# Altium schematic symbol library F1_MODULE.SchLib: 19 symbols (part 2 of 2)
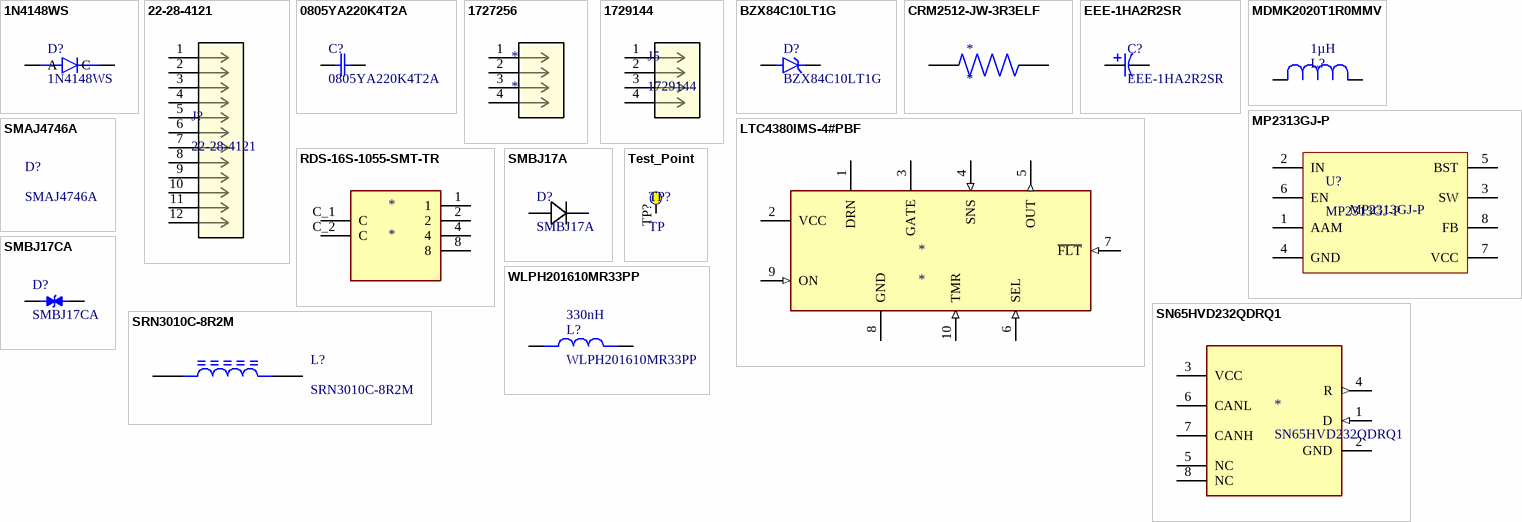
[diagram p1: symbols 1N4148WS to WLPH201610MR33PP]

## RDS-16S-1055-SMT-TR
designator *
Switch DIP N.O./N.C. SP16T 16 Flush Screwdriver 0.025A 24VDC Gull Wing 2.54mm SMD T/R; Manufacturer: Same Sky; Manufacturer Part Number: RDS-16S-1055-SMT-TR; Contact Resistance: 100mΩ; Electrical Life: 10kcycles; Max Current Rating: 25mA; Max Voltage Rating (DC): 24V; Number of Circuits: 1; Number of Positions: 16; Supplier: DigiKey; Supplier Part Number: 2223-RDS-16S-1055-SMT-CT-ND; RoHS: Compliant; Category: DIP Switches; Stock: 5142; Pricing: 1=2.82, 10=2.37, 25=2.1972, 100=1.9572 (USD); Color: Black; Height: 5.6mm; Insulation Resistance: 100MΩ; Length: 10mm; Lifecycle Status: Production; Max Operating Temperature: 85°C; Min Operating Temperature: -40°C; REACH SVHC: Yes; Schedule B: 8536509065, 8536509065|8536509065, 8536509065|8536509065|8536509065, 8536509065|8536509065|8536509065|8536509065; ComponentLink1URL: https://datasheet.octopart.com:443/RDS-16S-1055-SMT-TR-Same-Sky-datasheet-188842328.pdf?src-supplier=Same+Sky; ComponentLink1Description: https://datasheet.octopart.com:443/RDS-16S-1055-SMT-TR-Same-Sky-datasheet-188842328.pdf?src-supplier=Same+Sky; ComponentLink2URL: https://datasheet.octopart.com:443/RDS-16S-1055-SMT-TR-Same-Sky-datasheet-181918628.pdf?src-supplier=Same+Sky; ComponentLink2Description: https://datasheet.octopart.com:443/RDS-16S-1055-SMT-TR-Same-Sky-datasheet-181918628.pdf?src-supplier=Same+Sky; ComponentLink3URL: https://datasheet.octopart.com:443/RDS-16S-1055-SMT-TR-CUI-Devices-datasheet-175928118.pdf?src-supplier=Same+Sky; ComponentLink3Description: https://datasheet.octopart.com:443/RDS-16S-1055-SMT-TR-CUI-Devices-datasheet-175928118.pdf?src-supplier=Same+Sky; ComponentLink4URL: https://datasheet.octopart.com:443/RDS-16S-1055-SMT-TR-CUI-Devices-datasheet-144794870.pdf?src-supplier=Same+Sky; ComponentLink4Description: https://datasheet.octopart.com:443/RDS-16S-1055-SMT-TR-CUI-Devices-datasheet-144794870.pdf?src-supplier=Same+Sky; ComponentLink5URL: https://datasheet.octopart.com:443/RDS-16S-1055-SMT-TR-CUI-Devices-datasheet-180437904.pdf?src-supplier=IHS; ComponentLink5Description: https://datasheet.octopart.com:443/RDS-16S-1055-SMT-TR-CUI-Devices-datasheet-180437904.pdf?src-supplier=IHS; ComponentLink6URL: https://datasheet.octopart.com:443/RDS-16S-1055-SMT-TR-Same-Sky-datasheet-182881204.pdf?src-supplier=Electro+Sonic; ComponentLink6Description: https://datasheet.octopart.com:443/RDS-16S-1055-SMT-TR-Same-Sky-datasheet-182881204.pdf?src-supplier=Electro+Sonic; ComponentLink7URL: https://datasheet.octopart.com:443/RDS-16S-1055-SMT-TR-Same-Sky-datasheet-188930843.pdf?src-supplier=TME; ComponentLink7Description: https://datasheet.octopart.com:443/RDS-16S-1055-SMT-TR-Same-Sky-datasheet-188930843.pdf?src-supplier=TME; ComponentLink8URL: https://octopart.com:443/opatz8j6/c1?t=_S1XDk3G9b3nBWIqEVZHI1EraEkVL7p7Heb939L3wnZ9DV9oZzBat9jF5TUKmsQPFPswFGjm08oSHWgt3jIvZcreht7dXY8daMTDSCiV_xj2_1PLFk0-lz9TM6Y7r0fNgGwxxdSkMO1a2qh662FSY7f1YEICy7KBM9zZuplNSdDRuYvbCxZK2KU3RMUz__sLk1iFJHWIUZd17BlB_NVjl-uKDdwEs4d5ySw-iAHAF8e2UKEDWdecOr6CdlMuv3i-gD-LwaTN98BHJv5P7mmbkhlEk6etLcAlE_55m19djFkDizjzUjbm6XBh1vAY6B7V75G-CKM6kHJhCpUSHTpaC-CxlrLZPnu85Hm7XV74wE4&src-supplier=Compliance+Statements; ComponentLink8Description: https://octopart.com:443/opatz8j6/c1?t=_S1XDk3G9b3nBWIqEVZHI1EraEkVL7p7Heb939L3wnZ9DV9oZzBat9jF5TUKmsQPFPswFGjm08oSHWgt3jIvZcreht7dXY8daMTDSCiV_xj2_1PLFk0-lz9TM6Y7r0fNgGwxxdSkMO1a2qh662FSY7f1YEICy7KBM9zZuplNSdDRuYvbCxZK2KU3RMUz__sLk1iFJHWIUZd17BlB_NVjl-uKDdwEs4d5ySw-iAHAF8e2UKEDWdecOr6CdlMuv3i-gD-LwaTN98BHJv5P7mmbkhlEk6etLcAlE_55m19djFkDizjzUjbm6XBh1vAY6B7V75G-CKM6kHJhCpUSHTpaC-CxlrLZPnu85Hm7XV74wE4&src-supplier=Compliance+Statements; ComponentLink9URL: https://octopart.com:443/opatz8j6/c1?t=pBMn605KJwbyaiuYgBBWZQSRK8d6dqOwxIH_ygOUd1T616pUPn0YdFmPxmGa5QU_-vizhkGfwgt7t_2L4tcsKWqIk9y3SRxf2PnqRphcuJgDXtmx7u1QTfYOB-p4LJb3I4CL7XV8sVoi1PJJfC4hchyU7N3ePiVSCADPmsu5-5fwEHBOwn-z6uvapISW8fUea96iYDBC76UQ-EaxJovXgG2P1hes3rFKZ-dnuXFHtuoOQ2eL5NJgFdEOSW668PMcPqOLBuKLMVBnCvornv4snHUf7o0MQHZzGE2BHGwiC1zMBOuetF8_uOxQxsRySsODlphW6SH8JOts4ua06de6JoHX081EltQRHP6jK8W8r8c&src-supplier=Compliance+Statements; ComponentLink9Description: https://octopart.com:443/opatz8j6/c1?t=pBMn605KJwbyaiuYgBBWZQSRK8d6dqOwxIH_ygOUd1T616pUPn0YdFmPxmGa5QU_-vizhkGfwgt7t_2L4tcsKWqIk9y3SRxf2PnqRphcuJgDXtmx7u1QTfYOB-p4LJb3I4CL7XV8sVoi1PJJfC4hchyU7N3ePiVSCADPmsu5-5fwEHBOwn-z6uvapISW8fUea96iYDBC76UQ-EaxJovXgG2P1hes3rFKZ-dnuXFHtuoOQ2eL5NJgFdEOSW668PMcPqOLBuKLMVBnCvornv4snHUf7o0MQHZzGE2BHGwiC1zMBOuetF8_uOxQxsRySsODlphW6SH8JOts4ua06de6JoHX081EltQRHP6jK8W8r8c&src-supplier=Compliance+Statements; ComponentLink10URL: https://octopart.com:443/opatz8j6/c1?t=6K169W1h1JFuLpVrExhds8aA0MvU8XMb7l9HMdO5POypJLwzTxhQAbKMT-DgvLQUX9hILsc9f4UyvifXECUrQ9xMbEaO1dy2ZgJuF6GVBLUiL8g276mJyHG0DA3zYrN7wRH4xNkrRO6-YzoW579ONSkHf2aW_bmYrB7v178UhWVRjKWytY4ICcg4K1Y6KPHEVAnze1SYe4a7LrChmSuXFqNuzeCU7CStp_3G8i8MZBApe-0ZlIZb-2cyGbEBzwgJ3bHM5R0PGraOjQCdHvQQ5iHlXcxCqIwBcpO7h1AsRHr8UHf6bbLfscLcMUBPDVkx0-BUVYE8AbU32XSVc9McKF5zfWxL-AjBCroDywxcZSbfSqvK&src-supplier=Compliance+Statements; ComponentLink10Description: https://octopart.com:443/opatz8j6/c1?t=6K169W1h1JFuLpVrExhds8aA0MvU8XMb7l9HMdO5POypJLwzTxhQAbKMT-DgvLQUX9hILsc9f4UyvifXECUrQ9xMbEaO1dy2ZgJuF6GVBLUiL8g276mJyHG0DA3zYrN7wRH4xNkrRO6-YzoW579ONSkHf2aW_bmYrB7v178UhWVRjKWytY4ICcg4K1Y6KPHEVAnze1SYe4a7LrChmSuXFqNuzeCU7CStp_3G8i8MZBApe-0ZlIZb-2cyGbEBzwgJ3bHM5R0PGraOjQCdHvQQ5iHlXcxCqIwBcpO7h1AsRHr8UHf6bbLfscLcMUBPDVkx0-BUVYE8AbU32XSVc9McKF5zfWxL-AjBCroDywxcZSbfSqvK&src-supplier=Compliance+Statements; ComponentLink11URL: https://octopart.com:443/opatz8j6/c1?t=t0riTWjCNsnC1LUB7PTK6QCU5mFa7f4Pa5edh-wggO-qLfSw7MySbU_nxyLYi2xlgXsCg7FGGlIvozZukdnoQWkecPu-AG6X-Mtr8EI4gvbRH6_16uGmqkAyO9EXl8dcIoCfxxShGindmaUaq-ju5wDg7YxlfOyFQt_mOWFnzbzRxotfCjx8tROCtau5jTEzNErC7PwlxUmMnnyyk2iFRqNzBZmOrcA8Aw8sQsi5U1IPBIbF_21UzlNFuh3AprKn76yTa5GEehzp56YvNn2wEUg7xKx1Fmaf0qx6Ykk2DBkSCkl3AV3VHlYvCRGR-jHFVkibsrCWDICnw1SI9ofjJy33sP1ZqCIH77Ulxr3ij08&src-supplier=Compliance+Statements; ComponentLink11Description: https://octopart.com:443/opatz8j6/c1?t=t0riTWjCNsnC1LUB7PTK6QCU5mFa7f4Pa5edh-wggO-qLfSw7MySbU_nxyLYi2xlgXsCg7FGGlIvozZukdnoQWkecPu-AG6X-Mtr8EI4gvbRH6_16uGmqkAyO9EXl8dcIoCfxxShGindmaUaq-ju5wDg7YxlfOyFQt_mOWFnzbzRxotfCjx8tROCtau5jTEzNErC7PwlxUmMnnyyk2iFRqNzBZmOrcA8Aw8sQsi5U1IPBIbF_21UzlNFuh3AprKn76yTa5GEehzp56YvNn2wEUg7xKx1Fmaf0qx6Ykk2DBkSCkl3AV3VHlYvCRGR-jHFVkibsrCWDICnw1SI9ofjJy33sP1ZqCIH77Ulxr3ij08&src-supplier=Compliance+Statements; ComponentLink12URL: https://octopart.com:443/opatz8j6/c1?t=T4zBbLjbde79Y69W75SBXl1x58fD1Jjsv27lT550JoD4jNNnxGWJsu6m_LRt15OnWUI9PBP9yDqbt7Z_hirusoAM-vzIPyWBsY4vCehbolc_iTQAVx_hRSPUL33oujyWP9YI9knBt4PNjesga5Klgylx6mQlJ9fhysAViX2KxGLuNDaqjRWmXv_8qL9GciZJUI1ntv11mfODmdRp830CEAd39UocRIt5QXVKO7VeQG7G6wJgl8gzZeuicBUgYC4PTQOy6JrgEkRah6d0Byf4LhgsZCddeFGvlBKwDP74wGnGwgsFOmeLamwvpbRMd3BwSV8ctJE8McpyuW37-C3E02I8ScDdn5OU5BOadzRIK6I&src-supplier=Compliance+Statements; ComponentLink12Description: https://octopart.com:443/opatz8j6/c1?t=T4zBbLjbde79Y69W75SBXl1x58fD1Jjsv27lT550JoD4jNNnxGWJsu6m_LRt15OnWUI9PBP9yDqbt7Z_hirusoAM-vzIPyWBsY4vCehbolc_iTQAVx_hRSPUL33oujyWP9YI9knBt4PNjesga5Klgylx6mQlJ9fhysAViX2KxGLuNDaqjRWmXv_8qL9GciZJUI1ntv11mfODmdRp830CEAd39UocRIt5QXVKO7VeQG7G6wJgl8gzZeuicBUgYC4PTQOy6JrgEkRah6d0Byf4LhgsZCddeFGvlBKwDP74wGnGwgsFOmeLamwvpbRMd3BwSV8ctJE8McpyuW37-C3E02I8ScDdn5OU5BOadzRIK6I&src-supplier=Compliance+Statements; ComponentLink13URL: https://octopart.com:443/opatz8j6/c1?t=d64JeCYHwyDSf9wK9zwCARV_S-EguQ_wHk8emvD3YyPFFJCR8riSXx9K6BJ18wcOXwDQQ0iRbKnAh-kvmvdBPzVt2aTGedeoNDIQjLhXt8ghc3AEiMiwaIm3JmlcL5jW-wJzEnH9VD4q-noO0kk7pTp_yy3CjYbuS_WirZv4n5RqVZ7eNmQsqJo_v53UOmrndkTodISTG914TAsL70Nza-D1cf6jYDsm0vxoVIAgy9izJXjjFQ7fLIHXznD8WW_PEzFozminVy1BtMdU-yNXcgj7pcZ4DeuBfHyBBQES5IawiwiubWMYV-VhkuHrpgLZ2BPIHsVStO-tS2-vuT8fT2QunUJ4bLpqDwbpEEwfn8_wTSzE&src-supplier=Compliance+Statements; ComponentLink13Description: https://octopart.com:443/opatz8j6/c1?t=d64JeCYHwyDSf9wK9zwCARV_S-EguQ_wHk8emvD3YyPFFJCR8riSXx9K6BJ18wcOXwDQQ0iRbKnAh-kvmvdBPzVt2aTGedeoNDIQjLhXt8ghc3AEiMiwaIm3JmlcL5jW-wJzEnH9VD4q-noO0kk7pTp_yy3CjYbuS_WirZv4n5RqVZ7eNmQsqJo_v53UOmrndkTodISTG914TAsL70Nza-D1cf6jYDsm0vxoVIAgy9izJXjjFQ7fLIHXznD8WW_PEzFozminVy1BtMdU-yNXcgj7pcZ4DeuBfHyBBQES5IawiwiubWMYV-VhkuHrpgLZ2BPIHsVStO-tS2-vuT8fT2QunUJ4bLpqDwbpEEwfn8_wTSzE&src-supplier=Compliance+Statements
footprint SW_RDS-16S-1055-SMT-TR
pins: 1, 2, 4, 8, C_1 C, C_2 C

## SMAJ4746A
designator D?
Zener Diode, 18V V(Z), 1W, Silicon, Unidirectional, DO-214AC; Manufacturer: Multicomp; Number of Elements: 1; Zener Current: 14mA; Supplier: Farnell; Supplier Part Number: 2675209; Manufacturer Part Number: SMAJ4746A; RoHS: Compliant; Category: Zener Diodes; Stock: 4206; Pricing: 5=0.367, 10=0.293, 100=0.21, 500=0.147, 1000=0.105, 5000=0.0917 (EUR); Lifecycle Status: Production; Max Operating Temperature: 150°C; Max Power Dissipation: 1W; Min Operating Temperature: -55°C; Number of Terminals: 2; Packaging: Cut Tape; Polarity: Unidirectional; Reference Voltage: 18V; ComponentLink1URL: https://datasheet.octopart.com:443/SMAJ4746A-Multicomp-datasheet-68536675.pdf?src-supplier=IHS; ComponentLink1Description: https://datasheet.octopart.com:443/SMAJ4746A-Multicomp-datasheet-68536675.pdf?src-supplier=IHS

## SMBJ17A
designator D?
Trans Voltage Suppressor Diode, 600W, 17V V(RWM), Unidirectional, 1 Element, Silicon, DO-214AA; Manufacturer: Bourns; Breakdown Voltage: 19.9V; Clamping Voltage: 27.6V; Leakage Current: 5µA; Max Breakdown Voltage: 20.9V; Max Power Dissipation: 5W; Max Surge Current: 100A; Min Breakdown Voltage: 18.9V; Number of Channels: 1; Peak Pulse Current: 21.7A; Power Line Protection: No; Test Current: 1mA; Supplier: Arrow Electronics; Supplier Part Number: SMBJ17A; Manufacturer Part Number: SMBJ17A; RoHS: Compliant; Category: TVS Diodes; Stock: 1016; Pricing: 814=0.0788 (USD); Case/Package: SMB; China RoHS: Non-Compliant; Composition: Zener; Direction: Unidirectional; Lifecycle Status: Production; Max Operating Temperature: 150°C; Max Reverse Leakage Current: 5µA; Min Operating Temperature: -55°C; Mounting Technology: Surface Mount; Number of Elements: 1; Pins: 2; Number of Terminals: 2; Number of Unidirectional Channels: 1; Peak Pulse Power: 600W; Polarity: Unidirectional; REACH SVHC: No; Reverse Breakdown Voltage: 18.9V; Reverse Standoff Voltage: 17V; Schedule B: 8541100080, 8541100080|8541100080, 8541100080|8541100080|8541100080, 8541100080|8541100080|8541100080|8541100080; Termination: SMD/SMT; ComponentLink1URL: https://datasheet.octopart.com:443/SMBJ17A-Bourns-datasheet-179980059.pdf?src-supplier=TME; ComponentLink1Description: https://datasheet.octopart.com:443/SMBJ17A-Bourns-datasheet-179980059.pdf?src-supplier=TME; ComponentLink2URL: https://datasheet.octopart.com/SMBJ17A-Bourns-datasheet-12567566.pdf; ComponentLink2Description: https://datasheet.octopart.com/SMBJ17A-Bourns-datasheet-12567566.pdf; ComponentLink3URL: https://datasheet.octopart.com:443/SMBJ17A-Bourns-datasheet-154729896.pdf?src-supplier=JRH+Electronics; ComponentLink3Description: https://datasheet.octopart.com:443/SMBJ17A-Bourns-datasheet-154729896.pdf?src-supplier=JRH+Electronics; ComponentLink4URL: https://datasheet.octopart.com:443/SMBJ17A-Bourns-datasheet-94099898.pdf?src-supplier=Newark; ComponentLink4Description: https://datasheet.octopart.com:443/SMBJ17A-Bourns-datasheet-94099898.pdf?src-supplier=Newark; ComponentLink5URL: https://datasheet.octopart.com:443/SMBJ17A-Bourns-datasheet-42429174.pdf?src-supplier=Newark; ComponentLink5Description: https://datasheet.octopart.com:443/SMBJ17A-Bourns-datasheet-42429174.pdf?src-supplier=Newark; ComponentLink6URL: https://datasheet.octopart.com:443/SMBJ17A-Bourns-datasheet-34433208.pdf?src-supplier=Newark; ComponentLink6Description: https://datasheet.octopart.com:443/SMBJ17A-Bourns-datasheet-34433208.pdf?src-supplier=Newark; ComponentLink7URL: https://datasheet.octopart.com:443/SMBJ17A-Bourns-datasheet-154729571.pdf?src-supplier=RS+(Formerly+Allied+Electronics); ComponentLink7Description: https://datasheet.octopart.com:443/SMBJ17A-Bourns-datasheet-154729571.pdf?src-supplier=RS+(Formerly+Allied+Electronics); ComponentLink8URL: https://datasheet.octopart.com:443/SMBJ17A-Bourns-datasheet-14047909.pdf?src-supplier=iiiC; ComponentLink8Description: https://datasheet.octopart.com:443/SMBJ17A-Bourns-datasheet-14047909.pdf?src-supplier=iiiC; ComponentLink9URL: https://datasheet.octopart.com:443/SMBJ17A-Bourns-datasheet-10292148.pdf?src-supplier=element14; ComponentLink9Description: https://datasheet.octopart.com:443/SMBJ17A-Bourns-datasheet-10292148.pdf?src-supplier=element14; ComponentLink10URL: http://sigma.octopart.com:80/conflict_mineral_statement/Bourns-company-36.pdf?src-supplier=Compliance+Statements; ComponentLink10Description: http://sigma.octopart.com:80/conflict_mineral_statement/Bourns-company-36.pdf?src-supplier=Compliance+Statements
footprint SMBJSeries_LTF
pins: 1, 2

## SMBJ17CA
designator D?
DO-214AA SMB SMBJ Surface Mount 1 Zener Tvs Diode 18.9V 21.7A 600W -55C~150C TJ; Manufacturer: Taiwan Semiconductor; Manufacturer Lifecycle Status: ACTIVE; Breakdown Voltage: 19.9V; Clamping Voltage: 27.6V; Forward Voltage: 1V; Max Breakdown Voltage: 20.9V; Max Forward Surge Current (Ifsm): 2.5A; Max Junction Temperature (Tj): 150°C; Max Power Dissipation: 3W; Max Repetitive Reverse Voltage (Vrrm): 250V; Max Reverse Leakage Current: 1µA; Max Surge Current: 100A; Number of Channels: 1; Operating Supply Voltage: 17V; Peak Pulse Current: 22.8A; Polarity: Bidirectional; Power Dissipation: 200mW; Reverse Recovery Time: 50ns; Supplier: Arrow Electronics; Supplier Part Number: SMBJ17CA; Manufacturer Part Number: SMBJ17CA; RoHS: Compliant; Category: TVS Diodes; Stock: 5190; Pricing: 741=0.476, 1000=0.476, 3000=0.475 (USD); China RoHS: Non-Compliant; Height: 2.44mm; Lead Free: Lead Free; Length: 5.59mm; Lifecycle Status: Production; Max Operating Temperature: 150°C; Min Breakdown Voltage: 18.9V; Min Operating Temperature: -55°C; Number of Elements: 1; Pins: 2; Number of Terminals: 2; Peak Pulse Power: 600W; Peak Reverse Current: 1µA; Power Rating: 600W; REACH SVHC: No; Reverse Standoff Voltage: 17V; Schedule B: 8541100080; Voltage Rating (DC): 17V; Width: 3.94mm; ComponentLink1URL: https://datasheet.octopart.com:443/SMBJ17CA-Taiwan-Semiconductor-datasheet-151942224.pdf?src-supplier=Newark; ComponentLink1Description: https://datasheet.octopart.com:443/SMBJ17CA-Taiwan-Semiconductor-datasheet-151942224.pdf?src-supplier=Newark; ComponentLink2URL: https://datasheet.octopart.com:443/SMBJ17CA-Taiwan-Semiconductor-datasheet-94061883.pdf?src-supplier=Newark; ComponentLink2Description: https://datasheet.octopart.com:443/SMBJ17CA-Taiwan-Semiconductor-datasheet-94061883.pdf?src-supplier=Newark; ComponentLink3URL: https://datasheet.octopart.com:443/SMBJ17CA-Taiwan-Semiconductor-datasheet-181551140.pdf?src-supplier=IHS; ComponentLink3Description: https://datasheet.octopart.com:443/SMBJ17CA-Taiwan-Semiconductor-datasheet-181551140.pdf?src-supplier=IHS; ComponentLink4URL: https://datasheet.octopart.com:443/SMBJ17CA-Taiwan-Semiconductor-datasheet-182396145.pdf?src-supplier=IHS; ComponentLink4Description: https://datasheet.octopart.com:443/SMBJ17CA-Taiwan-Semiconductor-datasheet-182396145.pdf?src-supplier=IHS; ComponentLink5URL: https://datasheet.octopart.com:443/SMBJ17CA-Taiwan-Semiconductor-datasheet-180789127.pdf?src-supplier=IHS; ComponentLink5Description: https://datasheet.octopart.com:443/SMBJ17CA-Taiwan-Semiconductor-datasheet-180789127.pdf?src-supplier=IHS; ComponentLink6URL: https://datasheet.octopart.com:443/SMBJ17CA-Taiwan-Semiconductor-datasheet-137249696.pdf?src-supplier=Taiwan+Semiconductor; ComponentLink6Description: https://datasheet.octopart.com:443/SMBJ17CA-Taiwan-Semiconductor-datasheet-137249696.pdf?src-supplier=Taiwan+Semiconductor; ComponentLink7URL: https://datasheet.octopart.com:443/SMBJ17CA-Taiwan-Semiconductor-datasheet-34355353.pdf?src-supplier=Taiwan+Semiconductor; ComponentLink7Description: https://datasheet.octopart.com:443/SMBJ17CA-Taiwan-Semiconductor-datasheet-34355353.pdf?src-supplier=Taiwan+Semiconductor
footprint SMBJSeries_LTF
pins: 1, 2

## SN65HVD232QDRQ1
designator *
Texas Instruments - SN65HVD232QDRQ1 - Can Bus, Transceiver, Can, 1, 1, 3 V, 3.6 V, SOIC; Manufacturer Lifecycle Status: ACTIVE; Data Rate: 1Mbps; Max Supply Current: 17mA; Max Supply Voltage: 3.6V; Min Supply Voltage: 3V; Nominal Supply Current: 10mA; Number of Drivers: 1; Operating Supply Voltage: 3.3V; Supplier: DigiKey; Supplier Part Number: 296-15381-1-ND; Manufacturer: Texas Instruments; Manufacturer Part Number: SN65HVD232QDRQ1; RoHS: Compliant; Category: CAN Transceivers; Stock: 5233; Pricing: 1=2.53, 10=1.882, 25=1.7204, 100=1.542, 250=1.45696, 500=1.40572, 1000=1.36355 (USD); Ambient Temperature Range High: 125°C; Case/Package: SOIC; Contact Plating: Gold; Height: 1.75mm; Interface: CAN; Lead Free: Lead Free; Length: 4.9mm; Lifecycle Status: Production; Max Operating Temperature: 125°C; Min Operating Temperature: -40°C; Mounting Technology: Surface Mount; Pins: 8; Number of Receive Buffers: 1; Number of Transceivers: 1; Number of Transmit Buffers: 1; Radiation Hardening: No; REACH SVHC: No; Schedule B: 8542390000, 8542390000|8542390000|8542390000|8542390000|8542390000; Thickness: 1.58mm; Weight: 80.002354mg; Width: 3.91mm; ComponentLink1URL: https://octopart.com:443/opatz8j6/c1?t=LITAgAgz7B7QdaI9Qt2HgjoOmCu10XyqoYNHrwpusWZQVAPjgkmSFEF_risBrFxYo7pRufx3DEyy-N2gHphhBbY-O2brPGwBF0qWRDZBJwKpc8vz7NpKSZYmgFurZzREfPeTPNY--uS1FGiQhAQrSt4zcAPh1I7_MFqUNujoR0GcOpyZmo-pl9rdjnllxDCclFCKWB0voRrbvMpqWNAUQ8_CUMXod7jJBc2QYEMrdlZ29hcqAraiQu_d7e2TY7iSXt3xUmcpQy3q8KC-DM-dgBTcyvd1Ne-Gppd1cBkfaDw_Hz75aMDp-mAqQ1vF_U4SwwQFJ6tBaMhfxI2bAF_CCtHKrOx3ejVdVy91kaUfrzlkSVnoyQmpLArEwGXVjVjJpcLj4gC98fsP&src-supplier=Texas+Instruments; ComponentLink1Description: https://octopart.com:443/opatz8j6/c1?t=LITAgAgz7B7QdaI9Qt2HgjoOmCu10XyqoYNHrwpusWZQVAPjgkmSFEF_risBrFxYo7pRufx3DEyy-N2gHphhBbY-O2brPGwBF0qWRDZBJwKpc8vz7NpKSZYmgFurZzREfPeTPNY--uS1FGiQhAQrSt4zcAPh1I7_MFqUNujoR0GcOpyZmo-pl9rdjnllxDCclFCKWB0voRrbvMpqWNAUQ8_CUMXod7jJBc2QYEMrdlZ29hcqAraiQu_d7e2TY7iSXt3xUmcpQy3q8KC-DM-dgBTcyvd1Ne-Gppd1cBkfaDw_Hz75aMDp-mAqQ1vF_U4SwwQFJ6tBaMhfxI2bAF_CCtHKrOx3ejVdVy91kaUfrzlkSVnoyQmpLArEwGXVjVjJpcLj4gC98fsP&src-supplier=Texas+Instruments; ComponentLink2URL: https://datasheet.octopart.com:443/SN65HVD232QDRQ1-Texas-Instruments-datasheet-10256965.pdf?src-supplier=Texas+Instruments; ComponentLink2Description: https://datasheet.octopart.com:443/SN65HVD232QDRQ1-Texas-Instruments-datasheet-10256965.pdf?src-supplier=Texas+Instruments; ComponentLink3URL: https://sigma.octopart.com:443/49249642/technical_drawing/Texas-Instruments-SN65HVD232QDRQ1.pdf?src-supplier=Texas+Instruments; ComponentLink3Description: https://sigma.octopart.com:443/49249642/technical_drawing/Texas-Instruments-SN65HVD232QDRQ1.pdf?src-supplier=Texas+Instruments; ComponentLink4URL: https://datasheet.octopart.com:443/SN65HVD232QDRQ1-Texas-Instruments-datasheet-147837789.pdf?src-supplier=Upverter; ComponentLink4Description: https://datasheet.octopart.com:443/SN65HVD232QDRQ1-Texas-Instruments-datasheet-147837789.pdf?src-supplier=Upverter; ComponentLink5URL: https://datasheet.octopart.com:443/SN65HVD232QDRQ1-Texas-Instruments-datasheet-37726331.pdf?src-supplier=Farnell; ComponentLink5Description: https://datasheet.octopart.com:443/SN65HVD232QDRQ1-Texas-Instruments-datasheet-37726331.pdf?src-supplier=Farnell; ComponentLink6URL: https://datasheet.octopart.com:443/SN65HVD232QDRQ1-Texas-Instruments-datasheet-33010704.pdf?src-supplier=element14+APAC; ComponentLink6Description: https://datasheet.octopart.com:443/SN65HVD232QDRQ1-Texas-Instruments-datasheet-33010704.pdf?src-supplier=element14+APAC; ComponentLink7URL: https://datasheet.octopart.com:443/SN65HVD232QDRQ1-Texas-Instruments-datasheet-161336648.pdf?src-supplier=SHENGYU+ELECTRONICS; ComponentLink7Description: https://datasheet.octopart.com:443/SN65HVD232QDRQ1-Texas-Instruments-datasheet-161336648.pdf?src-supplier=SHENGYU+ELECTRONICS; ComponentLink8URL: https://datasheet.octopart.com:443/SN65HVD232QDRQ1-Texas-Instruments-datasheet-17022122.pdf?src-supplier=Factory+Futures; ComponentLink8Description: https://datasheet.octopart.com:443/SN65HVD232QDRQ1-Texas-Instruments-datasheet-17022122.pdf?src-supplier=Factory+Futures; ComponentLink9URL: https://datasheet.octopart.com:443/SN65HVD232QDRQ1-Texas-Instruments-datasheet-14121572.pdf?src-supplier=iiiC; ComponentLink9Description: https://datasheet.octopart.com:443/SN65HVD232QDRQ1-Texas-Instruments-datasheet-14121572.pdf?src-supplier=iiiC; ComponentLink10URL: https://datasheet.octopart.com:443/SN65HVD232QDRQ1-Texas-Instruments-datasheet-47830.pdf?src-supplier=DigiKey; ComponentLink10Description: https://datasheet.octopart.com:443/SN65HVD232QDRQ1-Texas-Instruments-datasheet-47830.pdf?src-supplier=DigiKey; ComponentLink11URL: http://sigma.octopart.com:80/conflict_mineral_statement/Texas-Instruments-company-63.pdf?src-supplier=Compliance+Statements; ComponentLink11Description: http://sigma.octopart.com:80/conflict_mineral_statement/Texas-Instruments-company-63.pdf?src-supplier=Compliance+Statements; ComponentLink12URL: http://sigma.octopart.com:80/reach_statement/Texas-Instruments-company-64.pdf?src-supplier=Compliance+Statements; ComponentLink12Description: http://sigma.octopart.com:80/reach_statement/Texas-Instruments-company-64.pdf?src-supplier=Compliance+Statements
footprint CAN IC
pins: 1 D (in), 2 GND (power), 3 VCC (power), 4 R (out), 5 NC, 6 CANL, 7 CANH, 8 NC

## SRN3010C-8R2M
designator L?
General Purpose Inductor, 8.2uH, 20%, 1 Element, Ferrite-Core, SMD, 1212; Manufacturer: Bourns; DC Resistance (DCR): 396mΩ; Value: 8.2µH; Max Current Rating: 1.3A; Number of Circuits: 1; Self Resonant Frequency: 45MHz; Shielding: Yes; Test Frequency: 100kHz; Supplier: Farnell; Supplier Part Number: 4176523; Manufacturer Part Number: SRN3010C-8R2M; RoHS: Compliant; Category: Fixed Inductors; Stock: 2960; Pricing: 5=0.329, 50=0.264, 250=0.202, 500=0.186, 1500=0.164 (EUR); Case/Package: 1212; Core Material: Ferrite; Height: 900µm; Lifecycle Status: Production; Max Operating Temperature: 125°C; Min Operating Temperature: -40°C; Number of Terminals: 2; REACH SVHC: Yes; Tolerance: 20%; Width: 3mm; ComponentLink1URL: https://datasheet.octopart.com:443/SRN3010C-8R2M-Bourns-datasheet-179982194.pdf?src-supplier=IHS; ComponentLink1Description: https://datasheet.octopart.com:443/SRN3010C-8R2M-Bourns-datasheet-179982194.pdf?src-supplier=IHS; ComponentLink2URL: http://sigma.octopart.com:80/conflict_mineral_statement/Bourns-company-36.pdf?src-supplier=Compliance+Statements; ComponentLink2Description: http://sigma.octopart.com:80/conflict_mineral_statement/Bourns-company-36.pdf?src-supplier=Compliance+Statements
footprint IND_SRN3010C-8R2M
pins: 1, 2

## Test_Point
designator TP?, comment TP
value: TP
footprint Test Point
pins: TP? Test Point

## WLPH201610MR33PP
designator L?  value 330nH
General Purpose Inductor, 0.33uH, 20%, 1 Element, SMD, 0806; Manufacturer: Walsin Technologies; DC Resistance (DCR): 29mΩ; Max Current Rating: 3.69A; Number of Circuits: 1; Shielding: Yes; Test Frequency: 1MHz; Supplier: DigiKey; Supplier Part Number: 1292-WLPH201610MR33PPCT-ND; Manufacturer Part Number: WLPH201610MR33PP; RoHS: Compliant; Category: Fixed Inductors; Stock: 1037; Pricing: 1=0.1, 10=0.059, 100=0.0488, 1000=0.04009 (USD); Case/Package: 0806; China RoHS: Compliant; Height: 1mm; Lifecycle Status: Production; Max Operating Temperature: 125°C; Min Operating Temperature: -40°C; Number of Terminals: 2; REACH SVHC: Yes; Tolerance: 20%; Width: 1.6mm; ComponentLink1URL: https://datasheet.octopart.com:443/WLPH201610MR33PP-Walsin-Technologies-datasheet-181485326.pdf?src-supplier=IHS; ComponentLink1Description: https://datasheet.octopart.com:443/WLPH201610MR33PP-Walsin-Technologies-datasheet-181485326.pdf?src-supplier=IHS
footprint IND_WLPH201610MR33PP
pins: 1, 2